# EAGLE library part SI9987DY (library 00_koarl-div)
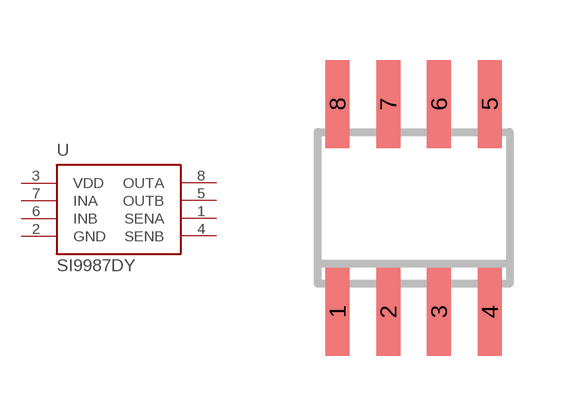
[diagram p7: symbol with the pads of SO8; footprint SO8]

Designator prefix -

## SI9987DY  [SO8]
1  SENA
2  GND  pwr
3  VDD  pwr
4  SENB
5  OUTB  out
6  INB  in
7  INA  in
8  OUTA  out

## Footprint SO8 (pad centres in mm)
8-Lead Small Outline IC (SO-8) Source: http://www.analog.com/UploadedFiles/Data_Sheets/703465986AD8611_2_0.pdf
smd 0.6 x 2.2: 1 -1.905,-2.6; 2 -0.635,-2.6; 3 0.635,-2.6; 4 1.905,-2.6; 5 1.905,2.6; 6 0.635,2.6; 7 -0.635,2.6; 8 -1.905,2.6